# Altium schematic symbol library TRANS-NPN-BEC.SCHLIB: 1 symbol
Pins are listed as number, name and electrical type; pins without a type are passive.

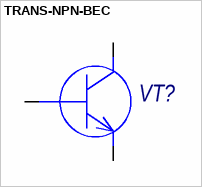
[diagram p0: symbol TRANS-NPN-BEC]

## TRANS-NPN-BEC
designator VT?
pins: 1 B, 2 E, 3 C